# EAGLE library part FRANZINHO (library Trabalho_Esp_32)
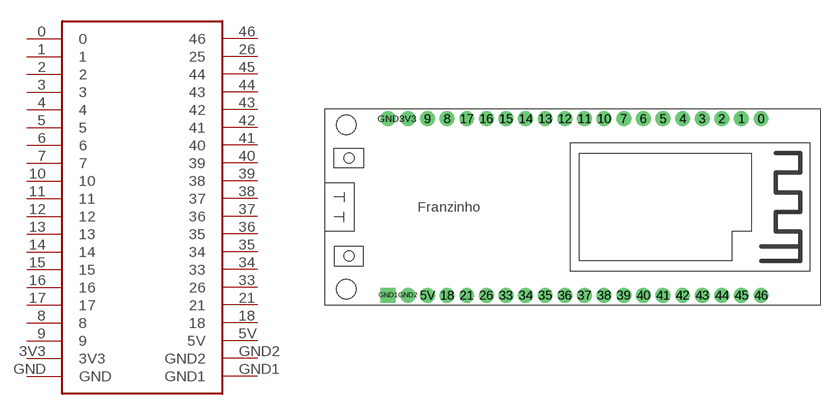
[diagram p0: symbol with the pads of ESP32-FRANZINHO; footprint ESP32-FRANZINHO]

Designator prefix -

## FRANZINHO  [ESP32-FRANZINHO]
0  0
1  1
2  2
3  3
3V3  3V3
4  4
5  5
5V  5V
6  6
7  7
8  8
9  9
10  10
11  11
12  12
13  13
14  14
15  15
16  16
17  17
18  18
21  21
26  25
33  26
34  33
35  34
36  35
37  36
38  37
39  38
40  39
41  40
42  41
43  42
44  43
45  44
46  46
GND  GND
GND1  GND1
GND2  GND2

## Footprint ESP32-FRANZINHO (pad centres in mm)
drill 0.813 pad 1.93: 0 56.517,24.13; 1 53.977,24.13; 2 51.437,24.13; 3 48.897,24.13; 3V3 10.797,24.13; 4 46.357,24.13; 5 43.817,24.13; 5V 13.337,1.27; 6 41.277,24.13; 7 38.737,24.13; 8 15.877,24.13; 9 13.337,24.13; 10 36.197,24.13; 11 33.657,24.13; 12 31.117,24.13; 13 28.577,24.13; 14 26.037,24.13; 15 23.497,24.13; 16 20.957,24.13; 17 18.417,24.13; 18 15.877,1.27; 21 18.417,1.27; 26 20.957,1.27; 33 23.497,1.27; 34 26.037,1.27; 35 28.577,1.27; 36 31.117,1.27; 37 33.657,1.27; 38 36.197,1.27; 39 38.737,1.27; 40 41.277,1.27; 41 43.817,1.27; 42 46.357,1.27; 43 48.897,1.27; 44 51.437,1.27; 45 53.977,1.27; 46 56.517,1.27; GND 8.257,24.13; GND2 10.797,1.27
drill 0.813 pad 1.93 square: GND1 8.257,1.27